# Altium footprint library SOD323.PcbLib: 1 footprints
Each footprint in its own frame and in the unit in brackets; x right, y up, seen from the top. Pads: shape width x height; smd on the part's side, far side on the other; paste and mask are expansions set on the pad; w line width, h text height; cw(c..) or ccw(c..) is an arc to the next point about the centre after c.
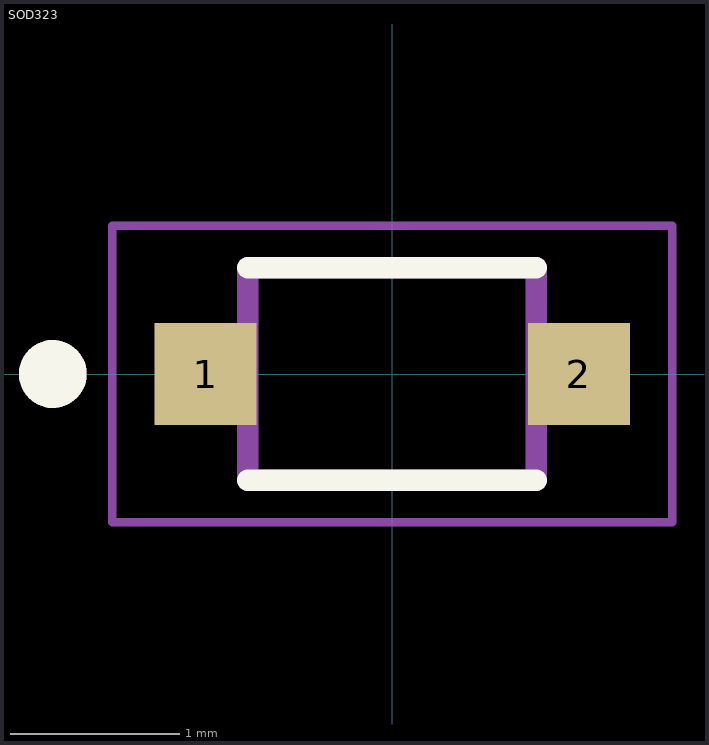
[diagram p0: the footprint, top view; thin cyan lines are the x and y axes]

## SOD323 [mm]
height 1.1
pads (2):
  rect 0.6x0.6 smd paste-0.05: 1(-1.1,0) 2(1.1,0)
Top Overlay:
  circle w0.2: c-2,0 r0.1
  lines w0.127: -0.85,-0.625 0.85,-0.625 ; -0.85,0.625 0.85,0.625
Assembly Top:
  circle w0.2: c-2,0 r0.1
  lines w0.127: -0.85,-0.625 -0.85,0.625 0.85,0.625 0.85,-0.625 -0.85,-0.625
Top Courtyard:
  lines w0.05: -1.65,-0.875 -1.65,0.875 1.65,0.875 1.65,-0.875 -1.65,-0.875
3D body "step_temp.STEP": height 1.1, standoff 0, extent -1.25,-0.625 1.25,0.625